# Altium schematic symbol library LQM21FN2R2N00D.SchLib: 1 symbol
Pins are listed as number, name and electrical type; pins without a type are passive.

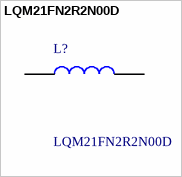
[diagram p0: symbol LQM21FN2R2N00D]

## LQM21FN2R2N00D
designator L?
Power inductor SMD 0805 2.2uH Murata LQM21F Series 2200 nH +/-30% Multilayer SMD Inductor, 0805 Case, SRF: 0.07GHz 150mA dc 280m Rdc; Manufacturer_Name: Murata Electronics; Geometry.Height: 1.05mm; Manufacturer_Part_Number: LQM21FN2R2N00D; Mouser Part Number: 81-LQM21FN2R2N00D; Mouser Price/Stock: https://www.mouser.co.uk/ProductDetail/Murata-Electronics/LQM21FN2R2N00D?qs=UiHJ25K6Y8qTV40WqZTE%2Fg%3D%3D; Arrow Part Number: LQM21FN2R2N00D; Arrow Price/Stock: https://www.arrow.com/en/products/lqm21fn2r2n00d/murata-manufacturing?region=nac; Datasheet Link: https://search.murata.co.jp/Ceramy/image/img/P02/JELF243B-0006.pdf
footprint LQM21NN1R0K10D
pins: 1, 2